# Altium schematic symbol library K-LED-FUSE.SchLib: 166 symbols (part 2 of 2)
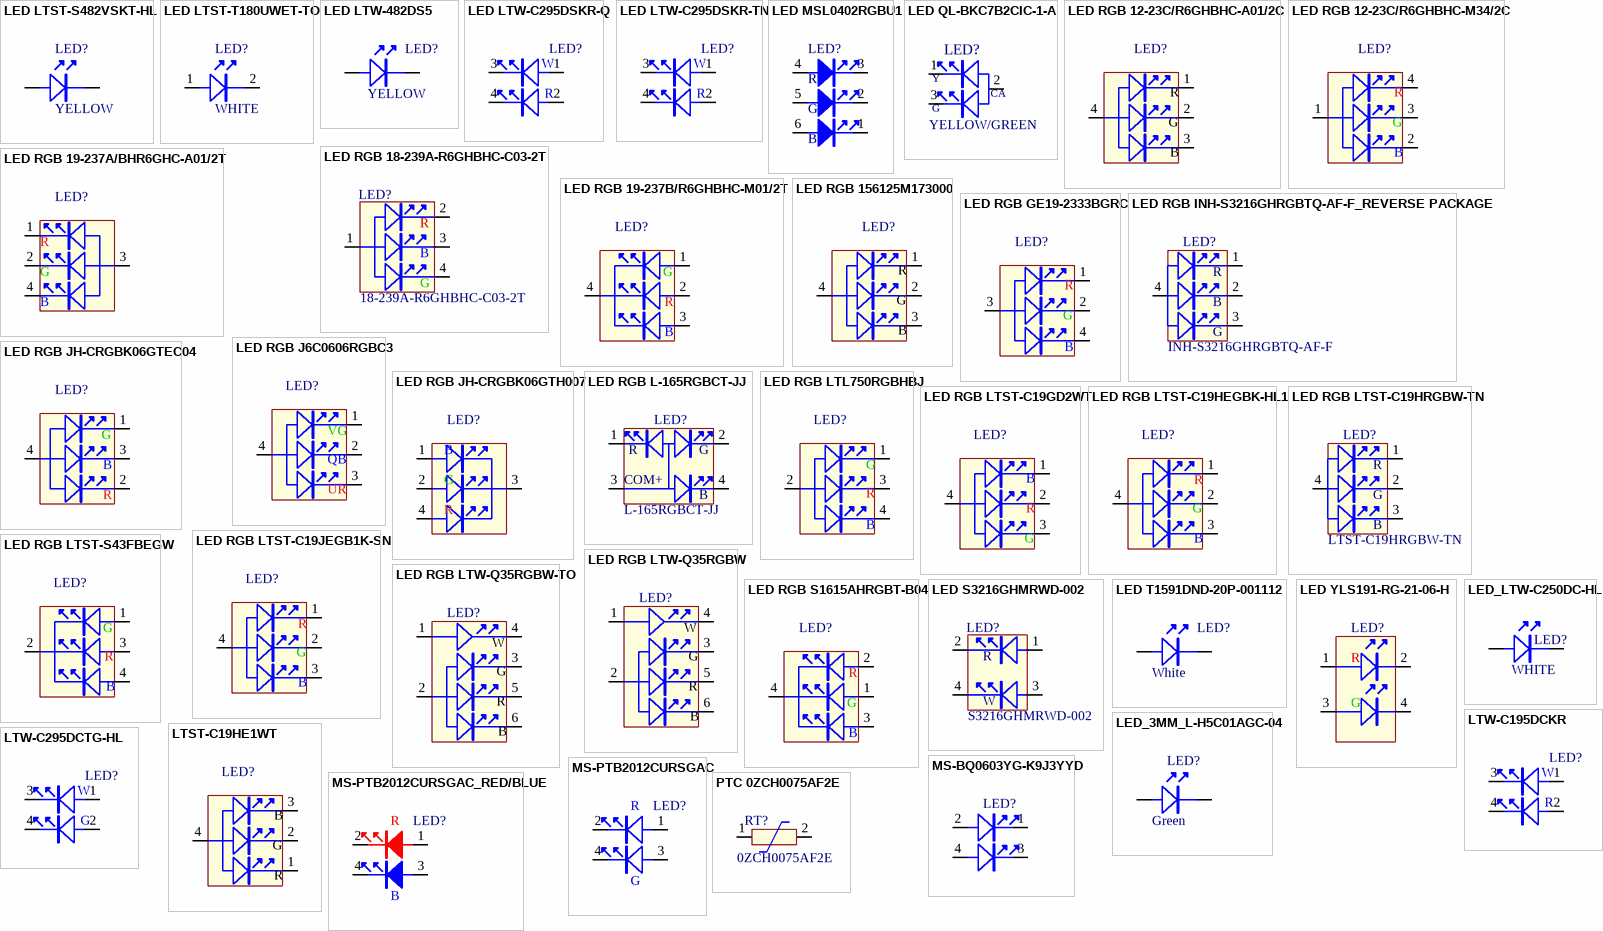
[diagram p5: symbols LED LTST-S482VSKT-HL to PTC 0ZCH0075AF2E]

## LED RGB JH-CRGBK06GTH007
designator LED?
LED TOP View RGB JH-CRGBK06GTH007; MFG: MING SHUO; CREATE_NAME: Nathan; DIP&SMD: SMD; SAP: *; Vendor Code: *; Vendor Name: *; MFG Part: JH-CRGBK06GTH007; CREATE_TIME: 24-Nov-2020; Type: LED
footprint SMTLED 1.6X1.5X0.6_RGB_3C (LED RGB L1.6mmXW1.5 mm H0.6mm)
pins: 1 R, 2 G, 3 COM, 4 B

## LED RGB L-165RGBCT-JJ
designator LED?, comment MFG Part: L-165RGBCT-JJ  (hidden comment: T575011920223)
LED-R 470 1.6*1. L-165RGBCT-J PARA LIG K; MFG: PARA LIGHT(光秥); Vr: 5V; CREATE_NAME: Nathan; If: 30mA; Type: LED; DIP&SMD: SMD; SAP: T575011920223; Vendor Code: *; Vendor Name: *; Package: *; CREATE_TIME: 02-June-2017
footprint L-165RGBCT-JJ (LED 1615 RGB L1.6mmXW1.5 mm H0.55mm)
pins: 1 R, 2 G, 3 COM, 4 B
text: COM+

## LED RGB LTL750RGBHBJ
designator LED?
LED RGB LTL750RGBHBJ; MFG: LITEON (光寶); CREATE_NAME: Nathan; DIP&SMD: SMD; SAP: *; Vendor Code: *; Vendor Name: *; MFG Part: LTL750RGBHBJ; CREATE_TIME: 27-May-2021; Type: LED
footprint LED RGB 3X5mm (LED RGB 3X5mm through hole)
pins: 1 B, 2 R, 3 G, 4 COM

## LED RGB LTST-C19GD2WT
designator LED?, comment T575007970204  (value not drawn)
LED RGB 2.1*1. LTST-C19GD2W LITEON ( L; MFG Part: LTST-C19GD2WT; MFG: LITEON (光寶); CREATE_NAME: Nathan; DIP&SMD: SMD; SAP: T575007970204; Vendor Code: *; Vendor Name: *; CREATE_TIME: 20-Sep-2017; Type: LED
footprint SMTLED LTST-C19GD2WT (LED 1.6*2.1 LTST-C19GD2WT  RGB)
pins: 1 B, 2 R, 3 G, 4 COM

## LED RGB LTST-C19HEGBK-HL1
designator LED?, comment T575012670204  (value not drawn)
LED RGB 1.6*1. LTST-C19HEGB LITEON K; MFG Part: LTST-C19HEGBK-HL1; MFG: LITEON (光寶); CREATE_NAME: Nathan; DIP&SMD: SMD; SAP: T575012670204; Vendor Code: *; Vendor Name: *; CREATE_TIME: 22-Mar-2019; Type: LED
footprint SMTLED LTST-C19HEGBK-HL1 (LED 1.6*1.6 LTST-C19HEGBK-HL1  RGB)
pins: 1 B, 2 R, 3 G, 4 COM

## LED RGB LTST-C19HRGBW-TN
designator LED?, comment MFG Part: LTST-C19HRGBW-TN  (hidden comment: T575012620204)
LED-R 470 1.6*1. LTST-C19HRGB LITEON L; CREATE_NAME: Tom; Type: LED; DIP&SMD: SMD; SAP: T575012620204; Vendor Code: *; Vendor Name: *; MFG: LITEON; Voltage: *; Package: *; CREATE_TIME: 08-Aug-2019; Current: *
footprint SMD1616-RGB
pins: 1 R, 2 G, 3 B, 4 COM

## LED RGB LTST-C19JEGB1K-SN
designator LED?
LED RGB 1.6*1. LTST-C19JEGB1K-SN LITEON K; MFG: LITEON (光寶); CREATE_NAME: Nathan; DIP&SMD: SMD; SAP: *; Vendor Code: *; Vendor Name: *; MFG Part: LTST-C19JEGB1K-SN; CREATE_TIME: 03-Nov-2020; Type: LED
footprint SMTLED 1.6X1.6X0.5_RGB (LED 1.6*1.6*0.5  RGB)
pins: 1 B, 2 R, 3 G, 4 COM

## LED RGB LTST-S43FBEGW
designator LED?
LED Side View RGB LTST-S43FBEGW; MFG: LITEON (光寶); CREATE_NAME: Nathan; DIP&SMD: SMD; SAP: *; Vendor Code: *; Vendor Name: *; MFG Part: LTST-S43FBEGW; CREATE_TIME: 13-Nov-2020; Type: LED
footprint LTST-S43FBEGW
pins: 1 B, 2 R, 3 G, 4 COM

## LED RGB LTW-Q35RGBW
designator LED?  (value not drawn)
pins: 1, 2, 3, 4, 5, 6
text: W; G; R; B

## LED RGB LTW-Q35RGBW-TO
designator LED?  (value not drawn)
LED LTW-Q35RGBW-TO; MFG: ROHM; CREATE_NAME: Nathan; Color: R/G/B; DIP&SMD: SMD; SAP: *; MFG Part: LTW-Q35RGBW-TO; Vendor Code: *; Vendor Name: *; Type: LED; CREATE_TIME: 17-Jun-2020
footprint LED LTW-Q35RGBW-TO (LTW-Q35RGBW-TO Body Size:3.1mm X 3.2mm  H0.65mm)
pins: 1, 2, 3, 4, 5, 6
text: W; G; R; B

## LED RGB S1615AHRGBT-B04
designator LED?
LED TOP View RGB S1615AHRGBT-B04; MFG: HENG RUN(恒润光電); CREATE_NAME: Nathan; DIP&SMD: SMD; SAP: *; Vendor Code: *; Vendor Name: *; MFG Part: S1615AHRGBT-B04; CREATE_TIME: 31-Dec-2020; Type: LED
footprint SMTLED 1.6X1.5X0.4_RGB_4C (LED RGB L1.6mmXW1.5 mm H0.4mm)
pins: 1 R, 2 G, 3 COM, 4 B

## LED S3216GHMRWD-002
designator LED?, comment MFG Part: S3216GHMRWD-002  (hidden comment: T575012330258)
LED 520 1206 S3216GHMRWD- MINGSHOU K; MFG: MINGSHOU(明碩光電); CREATE_NAME: Nathan; DIP&SMD: SMD; SAP: T575012330258; Vendor Code: *; Vendor Name: *; Voltage: *; Package: 1206 紅白雙色; CREATE_TIME: 14-May-2018; Current: *; Type: LED
footprint LED SMD L3.2W1.6H1.1 (LED SMD  L3.2mmXW1.6 mm H1.1mm (1206 Size))
pins: 1 A, 2 R, 3 B, 4 G
text: W

## LED T1591DND-20P-001112
designator LED?, comment Color: White  (hidden comment: T575012170255)
LED 450 3*2*1. T1591DND-20P HARVATEK K; MFG Part: T1591DND-20P-001112; Vf: 3.4V; Power: 68mW; MFG: HARVATEK   (宏齊科技); If: 20mA; Ifp: 30mA; CREATE_NAME: Nathan; DIP&SMD: SMD; SAP: T575012170255; Vendor Code: *; Vendor Name: *; Type: LED; CREATE_TIME: 18-Dec-2017
footprint T1591DND-20P-001112 White (SMD LED Body Size: 2mmX3mm H1.3mm)
pins: 1 A, 2 K

## LED YLS191-RG-21-06-H
designator LED?
SMD LED YLS191-RG-21-06-H; MFG: Y.LIN; CREATE_NAME: Nathan; SAP: *; MFG Part: YLS191-RG-21-06-H; Vendor Code: *; Vendor Name: *; Type: LED; CREATE_TIME: 17-May-2021; DIP&SMD: SMD; Customer Specific: N/A
footprint SMTLED 1.6X1.6X0.6_0603X2 (LED 1.6*1.6*0.6)
pins: 1, 2, 3, 4
text: R; G

## LED_3MM_L-H5C01AGC-04
designator LED?, comment Color: Green  (hidden comment: T575012790123)
LED G 530 H3.85\ L-H5C01AGC-0 PARA LIG K; MFG Part: L-H5C01AGC-04; MFG: PARA LIGHT(光秥); CREATE_NAME: Nathan; DIP&SMD: DIP; SAP: T575012790123; Vendor Code: *; Vendor Name: *; Voltage: *; Type: LED; CREATE_TIME: 14-Aug-2019
footprint 3mm LED-G (LED DIP Pitch 2.54mm)
pins: 1 A, 2 K

## LED_LTW-C250DC-HL
designator LED?  Color: WHITE
LTW-C250DC-HL; MFG: LITEON; Type: LED; DIP&SMD: SMD; CREATE_NAME: Nathan; MFG Part: LTW-C250DC-HL; SAP: *; Package: *; CREATE_TIME: 18-Jun-2021
footprint LED SMD L3.2W1.2H0.8_Reverse Mount (SMD LED 3.2x1.2mm Reverse mount)
pins: 1 A, 2 K

## LTST-C19HE1WT
designator LED?, comment T575008020204  (value not drawn)
LED RGB 1.6*1. LTST-C19HE1W LITEON ( H; MFG Part: LTST-C19HE1WT; CREATE_NAME: Tom; DIP&SMD: SMD; SAP: T575008020204; Vendor Code: *; Vendor Name: *; MFG: LITEON; CREATE_TIME: 03-Mar-2016; Type: LED
footprint LTST-C19HE1WT
pins: 1 R, 2 G, 3 G, 4 B

## LTW-C195DCKR
designator LED?, comment T575011730204  (value not drawn)
LED WHI 1.6*1. LTW-C195DCKR  WHITE /RED; MFG Part: LTW-C195DCKR-5A; MFG: LITEON; CREATE_NAME: Nathan; DIP&SMD: SMD; SAP: T575011730204; Vendor Code: *; Vendor Name: *; Type: LED; CREATE_TIME: 21-Dec-2016
footprint SMTLED LTW-C195DCKR (LED WHI 1.6*1. LTW-C195DCKR  WHITE /RED)
pins: 1, 2, 3, 4
text: W; R

## LTW-C295DCTG-HL
designator LED?, comment T575012720204  (value not drawn)
LED 525 1.6*0. LTW-C295DCTG LITEON K; MFG Part: LTW-C295DCTG-HL; CREATE_NAME: Nathan; DIP&SMD: SMD; SAP: T575012720204; Vendor Code: *; Vendor Name: *; MFG: LITEON; Type: LED; CREATE_TIME: 24-APR-2019
footprint SMTLED LTW-C295DCTG-HL (LED WHI 1.6*1. LTW-C295DCTG-HL  WHITE /GREEN)
pins: 1, 2, 3, 4
text: W; G

## MS-BQ0603YG-K9J3YYD
designator LED?
MS-BQ0603YG-K9J3YYD; MFG: MASON; Type: LED; CREATE_NAME: Nathan; DIP&SMD: SMD; SAP: *; MFG Part: MS-BQ0603YG-K9J3YYD; Vendor Code: *; Vendor Name: *; CREATE_TIME: 15-Jul-2021
footprint SMTLED_1.6X0.8X0.6_0603X2 (LED 1.6*0.8.*0.6)
pins: 1, 2, 3, 4

## MS-PTB2012CURSGAC
designator LED?, comment KCD250001-0010  (value not drawn)
SMD LED 2.0x1.25mm MS-PTB2012CURSGAC  RED/GREEN; SAP: T575009550253; MFG: MASON; CREATE_NAME: TOM@Deftronics; MFG Part: MS-PTB2012CURSGAC  RED/GREEN; Vendor Code: *; Vendor Name: *; Type: LED; CREATE_TIME: 22-Sep-2013; DIP&SMD: SMD
footprint SMTLED2.0*1.25-RGB (LED 0805 RGB L2mmXW1.5 mm H0.8mm)
pins: 1, 2, 3, 4
text: R; G

## MS-PTB2012CURSGAC_RED/BLUE
designator LED?, comment KCD260004-0010  (value not drawn)
SMD LED 2.0x1.25mm  MS-PTB2012CURSBAC   RED/BLUE; MFG Part: MS-PTB2012CURSGAC  RED/BLUE; SAP: T575009310253; MFG: MASON; CREATE_NAME: Evan@Deftronics; Vendor Code: *; Vendor Name: *; Type: LED; CREATE_TIME: 28-Apr-2014; DIP&SMD: SMD
footprint SMTLED2.0*1.25-RGB (LED 0805 RGB L2mmXW1.25 mm H0.8mm)
pins: 1, 2, 3, 4
text: R; B

## PTC 0ZCH0075AF2E
designator RT?, comment MFG Part: 0ZCH0075AF2E  (hidden comment: T690100003700)
FUSE PTC FUSE 24V 0.75A 1210 0ZCH0 K; MFG: Bel Fuse; CREATE_NAME: Nathan; Current: 1.5A; DIP&SMD: SMD; Vendor Code: *; Vendor Name: *; SAP: T690100003700; Voltage: 24V; Package: *; CREATE_TIME: 20-Apr-2017; Tolerance: *; Power: *; Type: PTC; Customer Specific: N/A
footprint 1210-RW
pins: 1, 2

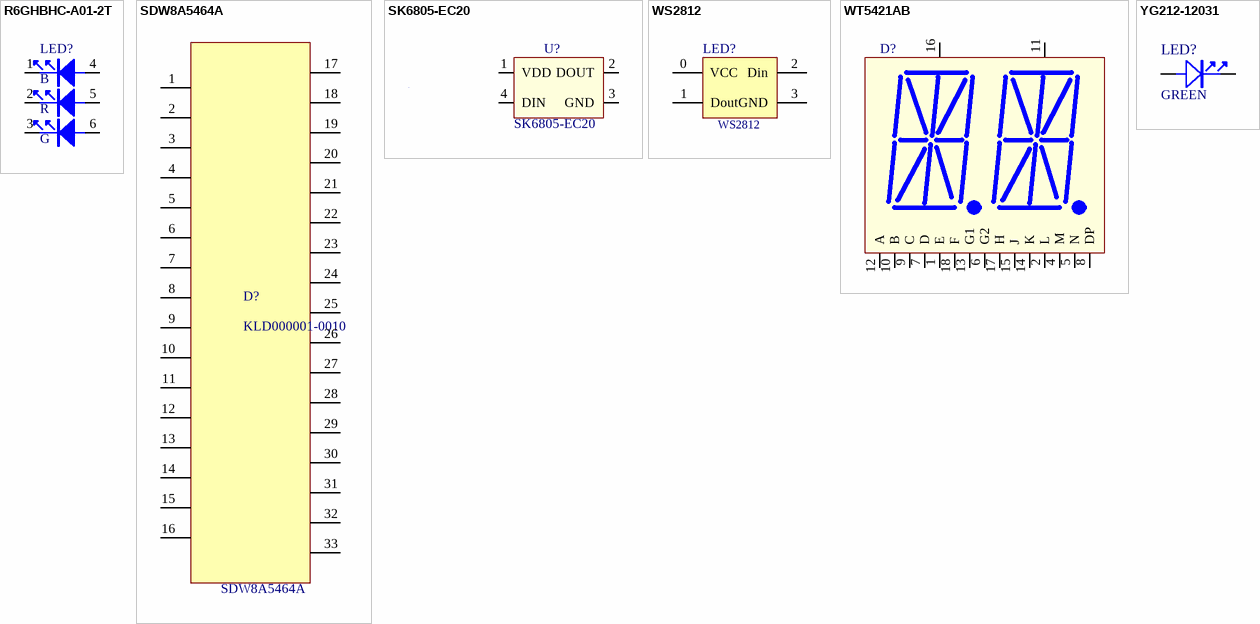
[diagram p4: symbols R6GHBHC-A01-2T to YG212-12031]

## R6GHBHC-A01-2T
designator LED?, comment KCD250003-0010  (value not drawn)
CHIP LED 19-337-R6GHBHC-A01-2T 100mcd R/G/B; SAP: T575010550202; MFG: EVERLIGHT; CREATE_NAME: Tom; DIP&SMD: SMD; MFG Part: R6GHBHC-A01-2T; Vendor Code: *; Vendor Name: *; Type: LED; CREATE_TIME: 06-May-2015; Color: R/G/B
footprint R6GHBHC-A01-2T
pins: 1, 2, 3, 4, 5, 6
text: B; R; G

## SDW8A5464A
designator D?, comment KLD000001-0010  MFG Part: SDW8A5464A
LCD DISPLAY SDW8A5464A-TNTNN-TNNOPA 33P; MFG: 卡乐; SAP: T167000001000; Vendor Code: 10020235; Vendor Name: 深圳市卡乐显示技术有限公司; Type: LED; DIP&SMD: DIP
footprint SDW8A5464A
pins: 1, 2, 3, 4, 5, 6, 7, 8, 9, 10, 11, 12, 13, 14, 15, 16, 17, 18, 19, 20, 21, 22, 23, 24, 25, 26, 27, 28, 29, 30, 31, 32, 33

## SK6805-EC20
designator U?, comment MFG Part: SK6805-EC20  (hidden comment: T575013100272)
LED-R R62 2.0*2. SK6805-EC20 JINGJU L; CREATE_NAME: Nathan; DIP&SMD: SMD; SAP: T575013100272; MFG: JINGJU; Vendor Code: *; Vendor Name: *; CREATE_TIME: 22-May-2020; Voltage: *; Type: LED; Current: *
footprint SK6805-EC20 (Body 2.0mm X 2.0mm)
pins: 1 VDD, 2 DOUT, 3 GND, 4 DIN

## WS2812
designator LED?
footprint WS2812
pins: 0 VCC, 1 Dout (oc), 2 Din, 3 GND

## WT5421AB
designator D?, comment T575009690158  (value not drawn)
LED 467 21*25* WT5421AB MINGSHOU K; CREATE_NAME: Tom; DIP&SMD: DIP; SAP: T575009690158; MFG Part: WT5421AB; Vendor Code: *; Vendor Name: *; MFG: MINGSHOU; Type: LED; CREATE_TIME: 23-May-2019; Color: *
footprint WT5421AB
pins: 1 E, 2 L, 4 M, 5 N, 6 G2, 7 D, 8 DP, 9 C, 10 B, 11 AR, 12 A, 13 G1, 14 K, 15 J, 16 AG, 17 H, 18 F

## YG212-12031
designator LED?, comment Color: GREEN  (hidden comment: KED500004-0010)
LED D3MM GREEN YG212-12031; SAP: T575009990164; MFG: XIAMEN G&P; CREATE_NAME: Tom; DIP&SMD: DIP; Vendor Name: *; Vendor Code: *; Type: LED; CREATE_TIME: 14-Apr-2015; MFG Part: YG212-12031
footprint 3mm LED-G (LED DIP Pitch 2.54mm)
pins: 1 A, 2 K